# Altium footprint library ICM20648.PcbLib: 1 footprints
Each footprint in its own frame and in the unit in brackets; x right, y up, seen from the top. Pads: shape width x height; smd on the part's side, far side on the other; paste and mask are expansions set on the pad; w line width, h text height; cw(c..) or ccw(c..) is an arc to the next point about the centre after c.
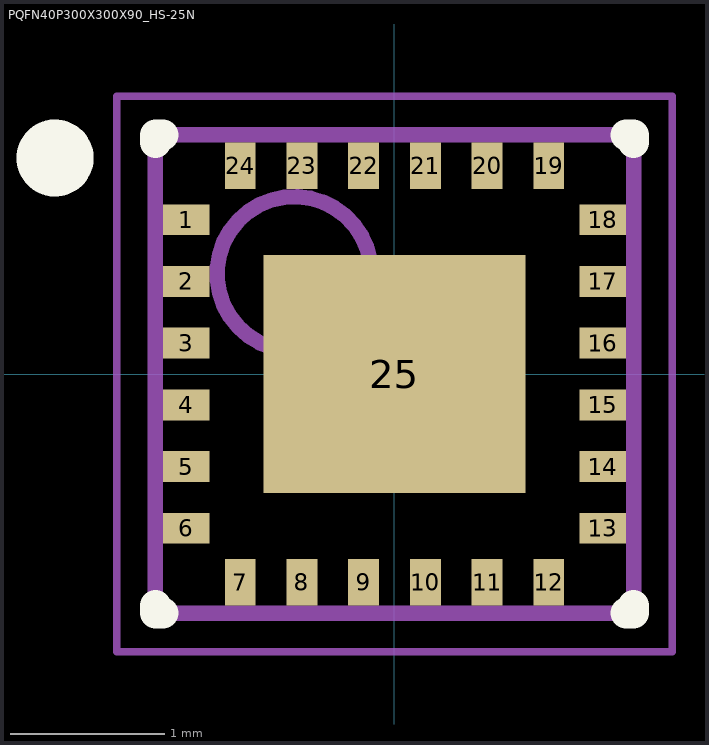
[diagram p0: the footprint, top view; thin cyan lines are the x and y axes]

## PQFN40P300X300X90_HS-25N [mm] "PQFN, 24-Leads, Body 3.00x3.00mm, Pitch 0.40mm, Thermal Pad 1.70x1.54mm, IPC Medium Density"
height 0.9
pads (25):
  rect 0.3x0.2 smd: 1(-1.35,1) 2(-1.35,0.6) 3(-1.35,0.2) 4(-1.35,-0.2) 5(-1.35,-0.6) 6(-1.35,-1) 13(1.35,-1) 14(1.35,-0.6) 15(1.35,-0.2) 16(1.35,0.2) 17(1.35,0.6) 18(1.35,1)
  rect 0.2x0.3 smd: 7(-1,-1.35) 8(-0.6,-1.35) 9(-0.2,-1.35) 10(0.2,-1.35) 11(0.6,-1.35) 12(1,-1.35) 19(1,1.35) 20(0.6,1.35) 21(0.2,1.35) 22(-0.2,1.35) 23(-0.6,1.35) 24(-1,1.35)
  rect 1.7x1.54 smd: 25(0,0)
Top Overlay:
  circle w0.25: c-2.2,1.4 r0.125
  lines w0.2: -1.55,-1.5 -1.55,-1.55 -1.5,-1.55 ; -1.55,1.5 -1.55,1.55 -1.5,1.55 ; 1.5,-1.55 1.55,-1.55 1.55,-1.5 ; 1.5,1.55 1.55,1.55 1.55,1.5
Mechanical 13:
  circle w0.1: c-0.65,0.65 r0.5
  lines w0.1: -1.55,-1.55 1.55,-1.55 1.55,1.55 -1.55,1.55 -1.55,-1.55
Mechanical 15:
  lines w0.05: -1.8,-1.8 1.8,-1.8 1.8,1.8 -1.8,1.8 -1.8,-1.8
  lines w0.1: -0.5,0 0.5,0 ; 0,-0.5 0,0.5
3D body "PQFN40P300X300X90_HS-25N.step": height 0.9, standoff 0, extent -1.55,-1.55 1.55,1.55